# Altium schematic symbol library MergenElektronik_Transistors_Mosfets.SchLib: 5 symbols
Pins are listed as number, name and electrical type; pins without a type are passive.

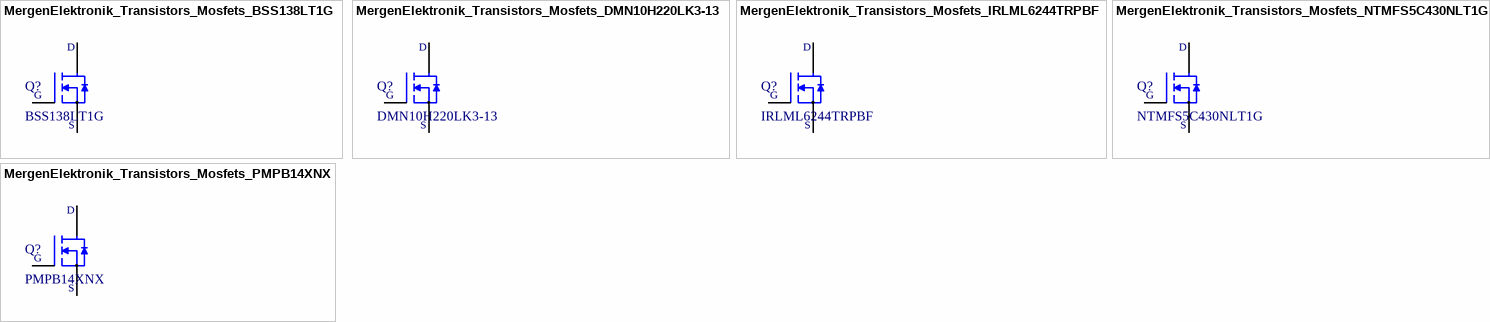
[diagram p0: symbols MergenElektronik_Transistors_Mosfets_BSS138LT1G to MergenElektronik_Transistors_Mosfets_PMPB14XNX]

## MergenElektronik_Transistors_Mosfets_BSS138LT1G
designator Q?, comment BSS138LT1G
Mergen Elektronik - Transistors - Mosfets - BSS138LT1G; Manufacturer: onsemi; Voltage Rated: 50V; Model: Mosfet; Id: 200mA; Value: BSS138LT1G; Temperature: -55°C up to +175°C (TJ); Digi-Key Number: BSS138LT1GOSCT-ND; Manufacturer Number: BSS138LT1G; Package: SOT-23; Mounting Type: Surface Mount; Vdss: 50V; Rating Current: 200mA; Mouser Number: 863-BSS138LT1G; Farnell Number: 1431319; Supplier 1: Digi-Key; Supplier 2: Mouser; Supplier Part Number 1: BSS138LT1GOSCT-ND; Supplier Part Number 2: 863-BSS138LT1G; Özdisan Number: BSS138LT1G; Current Rating: 200mA
footprint MergenElektronik_Transistors_Mosfets_SOT-23 (SOT-23)
pins: 1 Gate, 2 Source, 3 Drain
text: D; G; S

## MergenElektronik_Transistors_Mosfets_DMN10H220LK3-13
designator Q?, comment DMN10H220LK3-13
Mergen Elektronik - Transistors - Mosfets - DMN10H220LK3-13; Manufacturer: Diodes Incorporated; Voltage Rated: 100V; Model: Mosfet; Id: 7.5A; Value: DMN10H220LK3-13; Temperature: -55°C up to +175°C (TJ); Digi-Key Number: 31-DMN10H220LK3-13CT-ND; Manufacturer Number: DMN10H220LK3-13; Package: TO-252-3 DPAK; Mounting Type: Surface Mount; Vdss: 100V; Rating Current: 7.5A; Mouser Number: 621-DMN10H220LK3-13; Farnell Number: 3943521RL; Current Rating: 7.5A; Supplier 1: Digikey; Supplier 2: Mouser; Supplier Part Number 1: 31-DMN10H220LK3-13CT-ND; Supplier Part Number 2: 621-DMN10H220LK3-13
footprint MergenElektronik_Transistors_Mosfets_TO-252-3(DPAK) (TO-252-3 DPAK)
pins: 1 Gate, 2 Source, 3 Drain
text: D; G; S

## MergenElektronik_Transistors_Mosfets_IRLML6244TRPBF
designator Q?, comment IRLML6244TRPBF
Mergen Elektronik - Transistors - Mosfets - IRLML6244TRPBF; Manufacturer: Infineon Technologies; Voltage Rated: 20V; Model: Mosfet; Id: 6.3A; Value: IRLML6244TRPBF; Temperature: -55°C up to +150°C; Digi-Key Number: IRLML6244TRPBFCT-ND; Manufacturer Number: IRLML6244TRPBF; Package: SOT-23; Mounting Type: Surface Mount; Vdss: 20V; Rating Current: 6.3A; Mouser Number: 942-IRLML6244TRPBF; Farnell Number: 1864517; Supplier 1: Digi-Key; Supplier 2: Mouser; Supplier Part Number 1: IRLML6244TRPBFCT-ND; Supplier Part Number 2: 942-IRLML6244TRPBF; Özdisan Number: IRLML6244TRPBF
footprint MergenElektronik_Transistors_Mosfets_SOT-23 (SOT-23)
pins: 1 Gate, 2 Source, 3 Drain
text: D; G; S

## MergenElektronik_Transistors_Mosfets_NTMFS5C430NLT1G
designator Q?, comment NTMFS5C430NLT1G
Mergen Elektronik - Transistors - Mosfets - NTMFS5C430NLT1G; Manufacturer: onsemi; Value: NTMFS5ACC430NLT1G; Voltage Rated: 40V; Model: Mosfet; Id: 200A; Temperature: -55°C up to +175°C (TJ); Digi-Key Number: NTMFS5C430NLT1GOSCT-ND; Manufacturer Number: NTMFS5C430NLT1G; Package: 8-SOFL; Mounting Type: Surface Mount; Vdss: 40V; Rating Current: 200A; Supplier 1: Digi-Key; Supplier Part Number 1: NTMFS5C430NLT1GOSCT-ND
footprint MergenElektronik_Transistors_Mosfets_8-SOFL (8-SOFL)
pins: 1 Drain, 2 Source, 3 Gate
text: D; G; S

## MergenElektronik_Transistors_Mosfets_PMPB14XNX
designator Q?, comment PMPB14XNX
Mergen Elektronik - Transistors - Mosfets - PMPB14XNX; Manufacturer: Nexperia USA Inc.; Voltage Rated: 40V; Model: Mosfet; Id: 8.1A; Value: PMPB14XNX; Temperature: -55°C up to +150°C (TJ); Digi-Key Number: 1727-PMPB14XNXTR-ND; Manufacturer Number: PMPB14XNX; Package: DFN2020MD-6; Mounting Type: Surface Mount; Vdss: 40V; Rating Current: 8.1A; Mouser Number: 771-PMPB14XNX; Farnell Number: 3438541; Current Rating: 8.1A; Supplier 1: Mouser; Supplier 2: Digikey; Supplier Part Number 1: 771-PMPB14XNX; Supplier Part Number 2: 1727-PMPB14XNXTR-ND
footprint MergenElektronik_Transistors_Mosfets_DFN2020MD-6 (DFN2020MD-6)
pins: 1 Drain, 2 Gate, 3 Source
text: D; G; S